# EAGLE library part LOGIC-DUAL4INPUT-OR (library CougsInSpace)
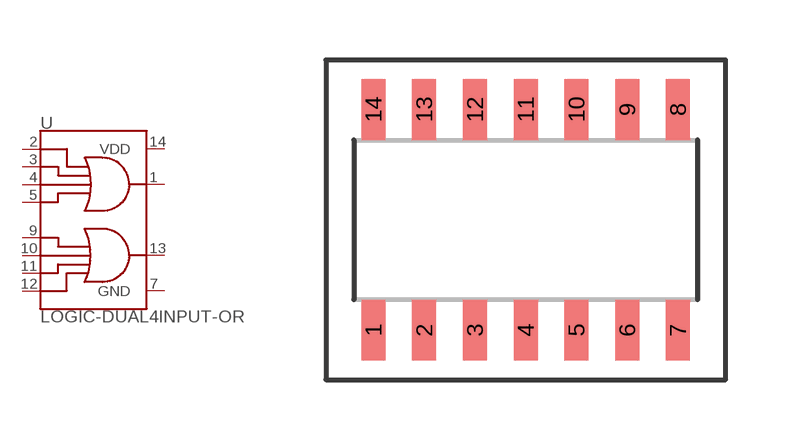
[diagram p7: symbol with the pads of SOIC-14; footprint SOIC-14]

Designator prefix U

## LOGIC-DUAL4INPUT-OR  [SOIC-14]
1  J  out
2  A  in
3  B  in
4  C  in
5  D  in
7  GND  pwr
9  E  in
10  F  in
11  G  in
12  H  in
13  K  out
14  VDD  pwr

## Footprint SOIC-14 (pad centres in mm)
smd 0.6 x 1.52: 1 -3.81,-2.76; 2 -2.54,-2.76; 3 -1.27,-2.76; 4 0,-2.76; 5 1.27,-2.76; 6 2.54,-2.76; 7 3.81,-2.76; 8 3.81,2.76; 9 2.54,2.76; 10 1.27,2.76; 11 0,2.76; 12 -1.27,2.76; 13 -2.54,2.76; 14 -3.81,2.76